# Altium footprint library WR-LECO.PcbLib: 17 footprints (part 1 of 2)
Each footprint in its own frame and in the unit in brackets; x right, y up, seen from the top. Pads: shape width x height; smd on the part's side, far side on the other; paste and mask are expansions set on the pad; w line width, h text height; cw(c..) or ccw(c..) is an arc to the next point about the centre after c.
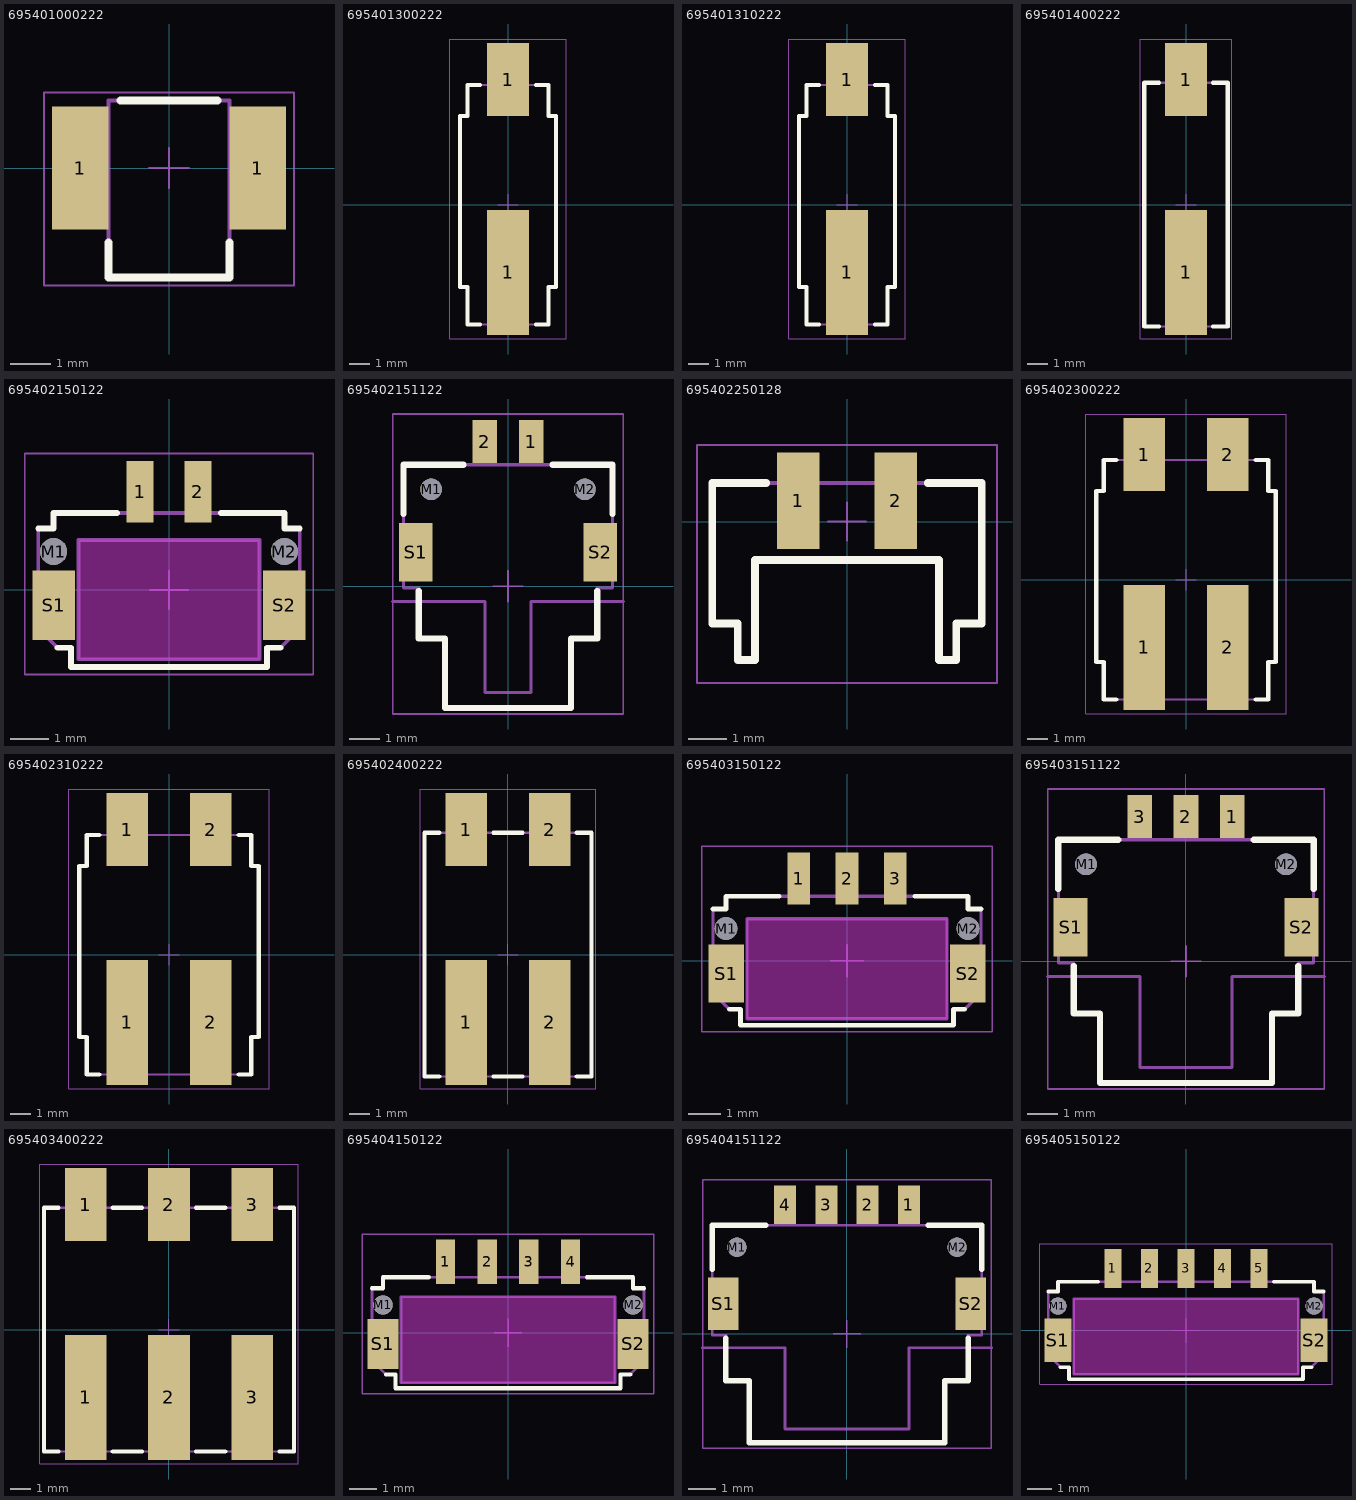
[diagram p0: the footprints below, top view; thin cyan lines are the x and y axes]

## 695401000222 [mm] "Single Contact SMT Vertical Poke-in Connector"
height 6
pads (2):
  rect 1.4x3.05 smd: 1(-2.2,0) 1(2.2,0)
Top Overlay:
  lines w0.2: -1.5,-1.85 -1.5,-2.72 1.5,-2.72 1.5,-1.85 ; -1.2,1.68 1.2,1.68
Top Designator:
  text ".Designator" at -7.498,-0.5 h1.5
Top Component Outline:
  lines w0.1: -1.5,-1.12 -2.5,-1.12 -2.5,1.26 -1.5,1.26 ; 1.5,-1.12 2.5,-1.12 2.5,1.26 1.5,1.26 ; -1.5,-2.72 1.5,-2.72 1.5,1.68 -1.5,1.68 -1.5,-2.72
Top 3D Body:
  lines w0.1: -1.5,-1.12 -2.5,-1.12 -2.5,1.26 -1.5,1.26 ; 1.5,-1.12 2.5,-1.12 2.5,1.26 1.5,1.26 ; -1.5,-2.72 1.5,-2.72 1.5,1.68 -1.5,1.68 -1.5,-2.72
Top Courtyard:
  lines w0.05: -3.1,-2.92 -3.1,1.88 3.1,1.88 3.1,-2.92 -3.1,-2.92
Top Component Center:
  lines w0.05: -0.5,0 0.5,0 ; 0,-0.5 0,0.5
3D body "695401000222 (rev1).step": height 6.05, standoff 0.05, extent -2.5,-2.72 2.5,1.68

## 695401300222 [mm] "4.00mm Side Entry SMT Type Connector"
height 4.9
pads (2):
  rect 2x6 smd: 1(0,-3.25)
  rect 2x3.5 smd: 1(0,6)
Top Overlay:
  lines w0.2: -1.35,-5.75 -1.95,-5.75 -1.95,-3.95 -2.31,-3.95 -2.31,4.25 -1.95,4.25 -1.95,5.75 -1.35,5.75 ; 1.35,-5.75 1.95,-5.75 1.95,-3.95 2.31,-3.95 2.31,4.25 1.95,4.25 1.95,5.75 1.35,5.75
Top Designator:
  text ".Designator" at -4.998,-0.333 h1
Top Component Outline:
  lines w0.1: -0.6,5.75 -0.6,7.35 0.6,7.35 0.6,5.75 ; -2.31,-3.95 -1.95,-3.95 -1.95,-5.75 1.95,-5.75 1.95,-3.95 2.31,-3.95 2.31,4.25 1.95,4.25 1.95,5.75 -1.95,5.75 -1.95,4.25 -2.31,4.25 -2.31,-3.95
Top Courtyard:
  lines w0.05: -2.8,-6.45 -2.8,7.95 2.8,7.95 2.8,-6.45 -2.8,-6.45
Top Component Center:
  lines w0.05: -0.5,0 0.5,0 ; 0,-0.5 0,0.5
3D body "695401300222.stp": height 5.05, standoff 0.05, extent -2.6,-5.75 2.6,7.35

## 695401310222 [mm] "4.00mm Side Entry SMT Type Connector"
height 4.9
pads (2):
  rect 2x6 smd: 1(0,-3.25)
  rect 2x3.5 smd: 1(0,6)
Top Overlay:
  lines w0.2: -1.35,-5.75 -1.95,-5.75 -1.95,-3.95 -2.31,-3.95 -2.31,4.25 -1.95,4.25 -1.95,5.75 -1.35,5.75 ; 1.35,-5.75 1.95,-5.75 1.95,-3.95 2.31,-3.95 2.31,4.25 1.95,4.25 1.95,5.75 1.35,5.75
Top Designator:
  text ".Designator" at -4.998,-0.333 h1
Top Component Outline:
  lines w0.1: -0.6,5.75 -0.6,7.35 0.6,7.35 0.6,5.75 ; -2.31,-3.95 -1.95,-3.95 -1.95,-5.75 1.95,-5.75 1.95,-3.95 2.31,-3.95 2.31,4.25 1.95,4.25 1.95,5.75 -1.95,5.75 -1.95,4.25 -2.31,4.25 -2.31,-3.95
Top Courtyard:
  lines w0.05: -2.8,-6.45 -2.8,7.95 2.8,7.95 2.8,-6.45 -2.8,-6.45
Top Component Center:
  lines w0.05: -0.5,0 0.5,0 ; 0,-0.5 0,0.5
3D body "695401300222.stp": height 5.05, standoff 0.05, extent -2.6,-5.75 2.6,7.35

## 695401400222 [mm] "SMT Horizontal Entry Connector, 1p"
height 4.6
pads (2):
  rect 2x6 smd: 1(0,-3.25)
  rect 2x3.5 smd: 1(0,6)
Top Overlay:
  lines w0.2: -1.3,-5.85 -2,-5.85 -2,5.85 -1.3,5.85 ; 1.3,-5.85 2,-5.85 2,5.85 1.3,5.85
Top Designator:
  text ".Designator" at 0.5,-7.498 h1.5
Top Component Outline:
  lines w0.1: -0.6,5.85 -0.6,7.25 0.6,7.25 0.6,5.85 ; -2,-5.85 -2,5.85 2,5.85 2,-5.85 -2,-5.85
Top 3D Body:
  lines w0.1: -0.6,5.85 -0.6,7.25 0.6,7.25 0.6,5.85 ; -2,-5.85 -2,5.85 2,5.85 2,-5.85 -2,-5.85
Top Courtyard:
  lines w0.05: -2.2,-6.45 2.2,-6.45 2.2,7.95 -2.2,7.95 -2.2,-6.45
Top Component Center:
  lines w0.05: -0.5,0 0.5,0 ; 0,-0.5 0,0.5
3D body "695401400222.stp": height 4.57, standoff -0.03, extent -2,-5.85 2,7.25

## 695402150122 [mm] "SMT_Plug_Horizontal_2 pins"
height 1.85
pads (6):
  rect 0.7x1.6 smd: 1(-0.75,2.55) 2(0.75,2.55)
  round 0.7 hole 0.7 unplated: M1(-3,1) M2(3,1)
  rect 1.1x1.8 smd: S1(-3,-0.4) S2(3,-0.4)
Top Overlay:
  lines w0.15: -3.4,1.6 -3,1.6 -3,2 -1.35,2 ; -2.898,-1.502 -2.548,-1.502 -2.548,-2 ; 1.35,2 3,2 3,1.6 3.4,1.6 ; 2.898,-1.502 2.548,-1.502 2.548,-2 ; -2.548,-2 2.548,-2 ; -2.548,-2 2.548,-2
Keep-Out Layer:
  board cut-out: -2.35,1.3 2.35,1.3 2.35,-1.8 -2.35,-1.8
Board Shape:
  lines w0.1: -2.35,-1.8 -2.35,1.3 2.35,1.3 2.35,-1.8 -2.35,-1.8
Top Designator:
  text ".Designator" at -7.498,-0.5 h1.5
Top Notes (Mech5):
  lines w0.1: -2.35,-1.8 2.35,-1.8 2.35,1.3 -2.35,1.3 -2.35,-1.8
  text "Panel Cutout" at -2,-0.4 h0.8
Top Component Outline:
  lines w0.1: -0.85,2 -0.85,3.1 -0.65,3.1 -0.65,2 ; 0.65,2 0.65,3.1 0.85,3.1 0.85,2 ; -3.4,-1 -2.898,-1.502 -2.548,-1.502 -2.548,-2 2.548,-2 2.548,-1.502 2.898,-1.502 3.4,-1 3.4,1.6 3,1.6 3,2 -3,2 -3,1.6 -3.4,1.6 -3.4,-1
Top 3D Body:
  lines w0.1: -0.85,2 -0.85,3.1 -0.65,3.1 -0.65,2 ; 0.65,2 0.65,3.1 0.85,3.1 0.85,2 ; -3.4,-1 -2.898,-1.502 -2.548,-1.502 -2.548,-2 2.548,-2 2.548,-1.502 2.898,-1.502 3.4,-1 3.4,1.6 3,1.6 3,2 -3,2 -3,1.6 -3.4,1.6 -3.4,-1
Top Courtyard:
  lines w0.05: -3.75,-2.2 -3.75,3.55 3.75,3.55 3.75,-2.2 -3.75,-2.2
Top Component Center:
  lines w0.05: -0.5,0 0.5,0 ; 0,-0.5 0,0.5
3D body "695402150122.stp": height 1.85, standoff -0.4, extent -3.4,-2 3.4,3.1

## 695402151122 [mm] "Horizontal SMT Receptacle_ 2 pins"
height 2.45
pads (6):
  rect 0.8x1.4 smd: 1(0.75,4.7) 2(-0.75,4.7)
  round 0.7 hole 0.7 unplated: M1(-2.5,3.15) M2(2.5,3.15)
  rect 1.1x1.9 smd: S1(-3,1.1) S2(3,1.1)
Top Overlay:
  lines w0.2: -3.4,2.35 -3.4,3.95 -1.45,3.95 ; -2.9,-0.15 -2.9,-1.7 -2.05,-1.7 -2.05,-3.95 2.05,-3.95 2.05,-1.7 2.9,-1.7 2.9,-0.15 ; 1.45,3.95 3.4,3.95 3.4,2.35
Top Designator:
  text ".Designator" at -7.498,-0.5 h1.5
Top Notes (Mech5):
  lines w0.1: -3.75,-0.5 -0.75,-0.5 -0.75,-3.45 0.75,-3.45 0.75,-0.5 3.75,-0.5
  text "PCB Edge" at -2.38,-4.397 h0.7
Top Component Outline:
  lines w0.1: -0.95,3.95 -0.95,5.05 -0.55,5.05 -0.55,3.95 ; 0.55,3.95 0.55,5.05 0.95,5.05 0.95,3.95 ; -3.4,-0.05 -3.4,3.95 3.4,3.95 3.4,-0.05 2.9,-0.05 2.9,-1.7 2.05,-1.7 2.05,-3.95 -2.05,-3.95 -2.05,-1.7 -2.9,-1.7 -2.9,-0.05 -3.4,-0.05
Top 3D Body:
  lines w0.1: -0.95,3.95 -0.95,5.05 -0.55,5.05 -0.55,3.95 ; 0.55,3.95 0.55,5.05 0.95,5.05 0.95,3.95 ; -3.4,-0.05 -3.4,3.95 3.4,3.95 3.4,-0.05 2.9,-0.05 2.9,-1.7 2.05,-1.7 2.05,-3.95 -2.05,-3.95 -2.05,-1.7 -2.9,-1.7 -2.9,-0.05 -3.4,-0.05
Top Courtyard:
  lines w0.05: -3.75,-4.15 3.75,-4.15 3.75,5.6 -3.75,5.6 -3.75,-4.15
Top Component Center:
  lines w0.05: -0.5,0 0.5,0 ; 0,-0.5 0,0.5
3D body "695402151122.stp": height 2.47, standoff -0.39, extent -3.4,-3.95 3.4,5.05

## 695402250128 [mm] "SMT Angled Hermaphroditic Connection"
height 2.3
pads (2):
  rect 1.1x2.5 smd: 1(-1.27,0.54) 2(1.27,0.54)
Top Overlay:
  lines w0.2: -2.1,1 -3.5,1 -3.5,-2.65 -2.84,-2.65 -2.84,-3.6 -2.39,-3.6 -2.39,-1 2.39,-1 2.39,-3.6 2.84,-3.6 2.84,-2.65 3.5,-2.65 3.5,1 2.1,1
Top Designator:
  text ".Designator" at -7.498,-0.5 h1.5
Top Component Outline:
  lines w0.1: -1.52,1 -1.52,1.5 -1.02,1.5 -1.02,1 ; 1.02,1 1.02,1.5 1.52,1.5 1.52,1 ; -3.5,-2.65 -2.84,-2.65 -2.84,-3.6 -2.39,-3.6 -2.39,-1 2.39,-1 2.39,-3.6 2.84,-3.6 2.84,-2.65 3.5,-2.65 3.5,1 -3.5,1 -3.5,-2.65
Top 3D Body:
  lines w0.1: -1.52,1 -1.52,1.5 -1.02,1.5 -1.02,1 ; 1.02,1 1.02,1.5 1.52,1.5 1.52,1 ; -3.5,-2.65 -2.84,-2.65 -2.84,-3.6 -2.39,-3.6 -2.39,-1 2.39,-1 2.39,-3.6 2.84,-3.6 2.84,-2.65 3.5,-2.65 3.5,1 -3.5,1 -3.5,-2.65
Top Courtyard:
  lines w0.05: -3.9,-4.2 3.9,-4.2 3.9,1.99 -3.9,1.99 -3.9,-4.2
Top Component Center:
  lines w0.05: -0.5,0 0.5,0 ; 0,-0.5 0,0.5
3D body "695402250128 (rev1).stp": height 2.32, standoff 0.02, extent -3.7,-4 3.7,1.513

## 695402300222 [mm] "4.00mm Side Entry SMT Type Connector"
height 4.9
pads (4):
  rect 2x6 smd: 1(-2,-3.25) 2(2,-3.25)
  rect 2x3.5 smd: 1(-2,6) 2(2,6)
Top Overlay:
  lines w0.2: -3.35,-5.75 -3.95,-5.75 -3.95,-3.95 -4.31,-3.95 -4.31,4.25 -3.95,4.25 -3.95,5.75 -3.35,5.75 ; 3.35,-5.75 3.95,-5.75 3.95,-3.95 4.31,-3.95 4.31,4.25 3.95,4.25 3.95,5.75 3.35,5.75
Top Designator:
  text ".Designator" at -4.998,-0.333 h1
Top Component Outline:
  lines w0.1: -2.6,5.75 -2.6,7.35 -1.4,7.35 -1.4,5.75 ; 1.4,5.75 1.4,7.35 2.6,7.35 2.6,5.75 ; -4.31,-3.95 -3.95,-3.95 -3.95,-5.75 3.95,-5.75 3.95,-3.95 4.31,-3.95 4.31,4.25 3.95,4.25 3.95,5.75 -3.95,5.75 -3.95,4.25 -4.31,4.25 -4.31,-3.95
Top Courtyard:
  lines w0.05: -4.8,-6.45 -4.8,7.95 4.8,7.95 4.8,-6.45 -4.8,-6.45
Top Component Center:
  lines w0.05: -0.5,0 0.5,0 ; 0,-0.5 0,0.5
3D body "695402300222.stp": height 5.05, standoff 0.05, extent -4.6,-5.75 4.6,7.35

## 695402310222 [mm] "4.00mm Side Entry SMT Type Connector"
height 4.9
pads (4):
  rect 2x6 smd: 1(-2,-3.25) 2(2,-3.25)
  rect 2x3.5 smd: 1(-2,6) 2(2,6)
Top Overlay:
  lines w0.2: -3.35,-5.75 -3.95,-5.75 -3.95,-3.95 -4.31,-3.95 -4.31,4.25 -3.95,4.25 -3.95,5.75 -3.35,5.75 ; 3.35,-5.75 3.95,-5.75 3.95,-3.95 4.31,-3.95 4.31,4.25 3.95,4.25 3.95,5.75 3.35,5.75
Top Designator:
  text ".Designator" at -4.998,-0.333 h1
Top Component Outline:
  lines w0.1: -2.6,5.75 -2.6,7.35 -1.4,7.35 -1.4,5.75 ; 1.4,5.75 1.4,7.35 2.6,7.35 2.6,5.75 ; -4.31,-3.95 -4.31,4.25 -3.95,4.25 -3.95,5.75 3.95,5.75 3.95,4.25 4.31,4.25 4.31,-3.95 3.95,-3.95 3.95,-5.75 -3.95,-5.75 -3.95,-3.95 -4.31,-3.95
Top Courtyard:
  lines w0.05: -4.8,-6.45 4.8,-6.45 4.8,7.95 -4.8,7.95 -4.8,-6.45
Top Component Center:
  lines w0.05: -0.5,0 0.5,0 ; 0,-0.5 0,0.5
3D body "695402300222.stp": height 5.05, standoff 0.05, extent -4.6,-5.75 4.6,7.35

## 695402400222 [mm] "SMT Horizontal Entry Connector, 2p"
height 4.6
pads (4):
  rect 2x6 smd: 1(-2,-3.25) 2(2,-3.25)
  rect 2x3.5 smd: 1(-2,6) 2(2,6)
Top Overlay:
  lines w0.2: -3.3,-5.85 -4,-5.85 -4,5.85 -3.3,5.85 ; -0.7,-5.85 0.7,-5.85 ; -0.7,5.85 0.7,5.85 ; 3.3,-5.85 4,-5.85 4,5.85 3.3,5.85
Top Designator:
  text ".Designator" at -7.498,-0.5 h1.5
Top Component Outline:
  lines w0.1: -2.6,5.85 -2.6,7.25 -1.4,7.25 -1.4,5.85 ; 1.4,5.85 1.4,7.25 2.6,7.25 2.6,5.85 ; -4,-5.85 4,-5.85 4,5.85 -4,5.85 -4,-5.85
Top 3D Body:
  lines w0.1: -2.6,5.85 -2.6,7.25 -1.4,7.25 -1.4,5.85 ; 1.4,5.85 1.4,7.25 2.6,7.25 2.6,5.85 ; -4,-5.85 4,-5.85 4,5.85 -4,5.85 -4,-5.85
Top Courtyard:
  lines w0.05: -4.2,-6.45 -4.2,7.95 4.2,7.95 4.2,-6.45 -4.2,-6.45
Top Component Center:
  lines w0.05: -0.5,0 0.5,0 ; 0,-0.5 0,0.5
3D body "695402400222.stp": height 4.57, standoff -0.03, extent -4,-5.85 4,7.25

## 695403150122 [mm] "SMT_Plug_Horizontal_3 pins"
height 1.85
pads (7):
  rect 0.7x1.6 smd: 1(-1.5,2.55) 2(0,2.55) 3(1.5,2.55)
  round 0.7 hole 0.7 unplated: M1(-3.75,1) M2(3.75,1)
  rect 1.1x1.8 smd: S1(-3.75,-0.4) S2(3.75,-0.4)
Top Overlay:
  lines w0.15: -4.15,1.6 -3.75,1.6 -3.75,2 -2.1,2 ; -3.648,-1.502 -3.298,-1.502 -3.298,-2 ; 1.798,-2 -3.298,-2 ; 2.1,2 3.75,2 3.75,1.6 4.15,1.6 ; 3.648,-1.502 3.298,-1.502 3.298,-2 -3.298,-2
Keep-Out Layer:
  board cut-out: -3.1,1.3 3.1,1.3 3.1,-1.8 -3.1,-1.8
Board Shape:
  lines w0.1: -3.1,-1.8 3.1,-1.8 3.1,1.3 -3.1,1.3 -3.1,-1.8
Top Designator:
  text ".Designator" at -7.498,-0.5 h1.5
Top Notes (Mech5):
  lines w0.1: -3.1,-1.8 -3.1,1.3 3.1,1.3 3.1,-1.8 -3.1,-1.8
  text "Panel Cutout" at -2,-0.4 h0.8
Top Component Outline:
  lines w0.1: -1.6,2 -1.6,3.1 -1.4,3.1 -1.4,2 ; -0.1,2 -0.1,3.1 0.1,3.1 0.1,2 ; 1.4,2 1.4,3.1 1.6,3.1 1.6,2 ; -4.15,-1 -4.15,1.6 -3.75,1.6 -3.75,2 3.75,2 3.75,1.6 4.15,1.6 4.15,-1 3.648,-1.502 3.298,-1.502 3.298,-2 -3.298,-2 -3.298,-1.502 -3.648,-1.502 -4.15,-1
Top 3D Body:
  lines w0.1: -1.6,2 -1.6,3.1 -1.4,3.1 -1.4,2 ; -0.1,2 -0.1,3.1 0.1,3.1 0.1,2 ; 1.4,2 1.4,3.1 1.6,3.1 1.6,2 ; -4.15,-1 -3.648,-1.502 -3.298,-1.502 -3.298,-2 3.298,-2 3.298,-1.502 3.648,-1.502 4.15,-1 4.15,1.6 3.75,1.6 3.75,2 -3.75,2 -3.75,1.6 -4.15,1.6 -4.15,-1
Top Courtyard:
  lines w0.05: -4.5,-2.2 -4.5,3.55 4.5,3.55 4.5,-2.2 -4.5,-2.2
Top Component Center:
  lines w0.05: -0.5,0 0.5,0 ; 0,-0.5 0,0.5
3D body "695403150122.stp": height 1.85, standoff -0.4, extent -4.15,-2 4.15,3.1

## 695403151122 [mm] "Horizontal SMT Receptacle_ 3 pins"
height 2.45
pads (7):
  rect 0.8x1.4 smd: 1(1.5,4.7) 2(0,4.7) 3(-1.5,4.7)
  round 0.7 hole 0.7 unplated: M1(-3.25,3.15) M2(3.25,3.15)
  rect 1.1x1.9 smd: S1(-3.75,1.1) S2(3.75,1.1)
Top Overlay:
  lines w0.2: -4.15,2.35 -4.15,3.95 -2.2,3.95 ; -3.65,-0.15 -3.65,-1.7 -2.8,-1.7 -2.8,-3.95 2.8,-3.95 2.8,-1.7 3.65,-1.7 3.65,-0.15 ; 2.2,3.95 4.15,3.95 4.15,2.35
Top Designator:
  text ".Designator" at -7.498,-0.5 h1.5
Top Notes (Mech5):
  lines w0.1: -4.5,-0.5 -1.5,-0.5 -1.5,-3.45 1.5,-3.45 1.5,-0.5 4.5,-0.5
  text "PCB Edge" at -2.38,-4.397 h0.7
Top Component Outline:
  lines w0.1: -1.7,3.95 -1.7,5.05 -1.3,5.05 -1.3,3.95 ; -0.2,3.95 -0.2,5.05 0.2,5.05 0.2,3.95 ; 1.3,3.95 1.3,5.05 1.7,5.05 1.7,3.95 ; -4.15,-0.05 -4.15,3.95 4.15,3.95 4.15,-0.05 3.65,-0.05 3.65,-1.7 2.8,-1.7 2.8,-3.95 -2.8,-3.95 -2.8,-1.7 -3.65,-1.7 -3.65,-0.05 -4.15,-0.05
Top 3D Body:
  lines w0.1: -1.7,3.95 -1.7,5.05 -1.3,5.05 -1.3,3.95 ; -0.2,3.95 -0.2,5.05 0.2,5.05 0.2,3.95 ; 1.3,3.95 1.3,5.05 1.7,5.05 1.7,3.95 ; -4.15,-0.05 -3.65,-0.05 -3.65,-1.7 -2.8,-1.7 -2.8,-3.95 2.8,-3.95 2.8,-1.7 3.65,-1.7 3.65,-0.05 4.15,-0.05 4.15,3.95 -4.15,3.95 -4.15,-0.05
Top Courtyard:
  lines w0.05: -4.5,-4.15 -4.5,5.6 4.5,5.6 4.5,-4.15 -4.5,-4.15
Top Component Center:
  lines w0.05: -0.5,0 0.5,0 ; 0,-0.5 0,0.5
3D body "695403151122.stp": height 2.47, standoff -0.39, extent -4.15,-3.95 4.15,5.05

## 695403400222 [mm] "SMT Horizontal Entry Connector, 3p"
height 4.6
pads (6):
  rect 2x6 smd: 1(-4,-3.25) 2(0,-3.25) 3(4,-3.25)
  rect 2x3.5 smd: 1(-4,6) 2(0,6) 3(4,6)
Top Overlay:
  lines w0.2: -5.3,-5.85 -6,-5.85 -6,5.85 -5.3,5.85 ; -2.7,-5.85 -1.3,-5.85 ; -2.7,5.85 -1.3,5.85 ; 1.3,-5.85 2.7,-5.85 ; 1.3,5.85 2.7,5.85 ; 5.3,-5.85 6,-5.85 6,5.85 5.3,5.85
Top Designator:
  text ".Designator" at -7.498,-0.5 h1.5
Top Component Outline:
  lines w0.1: -4.6,5.85 -4.6,7.25 -3.4,7.25 -3.4,5.85 ; -0.6,5.85 -0.6,7.25 0.6,7.25 0.6,5.85 ; 3.4,5.85 3.4,7.25 4.6,7.25 4.6,5.85 ; -6,-5.85 6,-5.85 6,5.85 -6,5.85 -6,-5.85
Top 3D Body:
  lines w0.1: -4.6,5.85 -4.6,7.25 -3.4,7.25 -3.4,5.85 ; -0.6,5.85 -0.6,7.25 0.6,7.25 0.6,5.85 ; 3.4,5.85 3.4,7.25 4.6,7.25 4.6,5.85 ; -6,-5.85 6,-5.85 6,5.85 -6,5.85 -6,-5.85
Top Courtyard:
  lines w0.05: -6.2,-6.45 -6.2,7.95 6.2,7.95 6.2,-6.45 -6.2,-6.45
Top Component Center:
  lines w0.05: -0.5,0 0.5,0 ; 0,-0.5 0,0.5
3D body "695403400222.stp": height 4.57, standoff -0.03, extent -6,-5.85 6,7.25

## 695404150122 [mm] "SMT_Plug_Horizontal_4 pins"
height 1.85
pads (8):
  rect 0.7x1.6 smd: 1(-2.25,2.55) 2(-0.75,2.55) 3(0.75,2.55) 4(2.25,2.55)
  round 0.7 hole 0.7 unplated: M1(-4.5,1) M2(4.5,1)
  rect 1.1x1.8 smd: S1(-4.5,-0.4) S2(4.5,-0.4)
Top Overlay:
  lines w0.15: -4.9,1.6 -4.5,1.6 -4.5,2 -2.85,2 ; -4.398,-1.502 -4.048,-1.502 -4.048,-2 ; 1.048,-2 -4.048,-2 ; 2.85,2 4.5,2 4.5,1.6 4.9,1.6 ; 4.398,-1.502 4.048,-1.502 4.048,-2 -4.048,-2
Keep-Out Layer:
  board cut-out: -3.85,1.3 3.85,1.3 3.85,-1.8 -3.85,-1.8
Board Shape:
  lines w0.1: -3.85,-1.8 3.85,-1.8 3.85,1.3 -3.85,1.3 -3.85,-1.8
Top Designator:
  text ".Designator" at -7.498,-0.5 h1.5
Top Notes (Mech5):
  lines w0.1: -3.85,-1.8 3.85,-1.8 3.85,1.3 -3.85,1.3 -3.85,-1.8
  text "Panel Cutout" at -2,-0.4 h0.8
Top Component Outline:
  lines w0.1: -2.35,2 -2.35,3.1 -2.15,3.1 -2.15,2 ; -0.85,2 -0.85,3.1 -0.65,3.1 -0.65,2 ; 0.65,2 0.65,3.1 0.85,3.1 0.85,2 ; 2.15,2 2.15,3.1 2.35,3.1 2.35,2 ; -4.9,-1 -4.398,-1.502 -4.048,-1.502 -4.048,-2 4.048,-2 4.048,-1.502 4.398,-1.502 4.9,-1 4.9,1.6 4.5,1.6 4.5,2 -4.5,2 -4.5,1.6 -4.9,1.6 -4.9,-1
Top 3D Body:
  lines w0.1: -2.35,2 -2.35,3.1 -2.15,3.1 -2.15,2 ; -0.85,2 -0.85,3.1 -0.65,3.1 -0.65,2 ; 0.65,2 0.65,3.1 0.85,3.1 0.85,2 ; 2.15,2 2.15,3.1 2.35,3.1 2.35,2 ; -4.9,-1 -4.9,1.6 -4.5,1.6 -4.5,2 4.5,2 4.5,1.6 4.9,1.6 4.9,-1 4.398,-1.502 4.048,-1.502 4.048,-2 -4.048,-2 -4.048,-1.502 -4.398,-1.502 -4.9,-1
Top Courtyard:
  lines w0.05: -5.25,-2.2 5.25,-2.2 5.25,3.55 -5.25,3.55 -5.25,-2.2
Top Component Center:
  lines w0.05: -0.5,0 0.5,0 ; 0,-0.5 0,0.5
3D body "695404150122.stp": height 1.85, standoff -0.4, extent -4.9,-2 4.9,3.1

## 695404151122 [mm] "Horizontal SMT Receptacle_ 4 pins"
height 2.45
pads (8):
  rect 0.8x1.4 smd: 1(2.25,4.7) 2(0.75,4.7) 3(-0.75,4.7) 4(-2.25,4.7)
  round 0.7 hole 0.7 unplated: M1(-4,3.15) M2(4,3.15)
  rect 1.1x1.9 smd: S1(-4.5,1.1) S2(4.5,1.1)
Top Overlay:
  lines w0.2: -4.9,2.35 -4.9,3.95 -2.95,3.95 ; -4.4,-0.15 -4.4,-1.7 -3.55,-1.7 -3.55,-3.95 3.55,-3.95 3.55,-1.7 4.4,-1.7 4.4,-0.15 ; 2.95,3.95 4.9,3.95 4.9,2.35
Top Designator:
  text ".Designator" at -7.498,-0.5 h1.5
Top Notes (Mech5):
  lines w0.1: -5.25,-0.5 -2.25,-0.5 -2.25,-3.45 2.25,-3.45 2.25,-0.5 5.25,-0.5
  text "PCB Edge" at -2.38,-4.397 h0.7
Top Component Outline:
  lines w0.1: -2.45,3.95 -2.45,5.05 -2.05,5.05 -2.05,3.95 ; -0.95,3.95 -0.95,5.05 -0.55,5.05 -0.55,3.95 ; 0.55,3.95 0.55,5.05 0.95,5.05 0.95,3.95 ; 2.05,3.95 2.05,5.05 2.45,5.05 2.45,3.95 ; -4.9,-0.05 -4.9,3.95 4.9,3.95 4.9,-0.05 4.4,-0.05 4.4,-1.7 3.55,-1.7 3.55,-3.95 -3.55,-3.95 -3.55,-1.7 -4.4,-1.7 -4.4,-0.05 -4.9,-0.05
Top 3D Body:
  lines w0.1: -2.45,3.95 -2.45,5.05 -2.05,5.05 -2.05,3.95 ; -0.95,3.95 -0.95,5.05 -0.55,5.05 -0.55,3.95 ; 0.55,3.95 0.55,5.05 0.95,5.05 0.95,3.95 ; 2.05,3.95 2.05,5.05 2.45,5.05 2.45,3.95 ; -4.9,-0.05 -4.4,-0.05 -4.4,-1.7 -3.55,-1.7 -3.55,-3.95 3.55,-3.95 3.55,-1.7 4.4,-1.7 4.4,-0.05 4.9,-0.05 4.9,3.95 -4.9,3.95 -4.9,-0.05
Top Courtyard:
  lines w0.05: -5.25,-4.15 -5.25,5.6 5.25,5.6 5.25,-4.15 -5.25,-4.15
Top Component Center:
  lines w0.05: -0.5,0 0.5,0 ; 0,-0.5 0,0.5
3D body "695404151122.stp": height 2.47, standoff -0.39, extent -4.9,-3.95 4.9,5.05

## 695405150122 [mm] "SMT_Plug_Horizontal_5 pins"
height 1.85
pads (9):
  rect 0.7x1.6 smd: 1(-3,2.55) 2(-1.5,2.55) 3(0,2.55) 4(1.5,2.55) 5(3,2.55)
  round 0.7 hole 0.7 unplated: M1(-5.25,1) M2(5.25,1)
  rect 1.1x1.8 smd: S1(-5.25,-0.4) S2(5.25,-0.4)
Top Overlay:
  lines w0.15: -5.65,1.6 -5.25,1.6 -5.25,2 -3.6,2 ; -5.148,-1.502 -4.798,-1.502 -4.798,-2 ; 0.298,-2 -4.798,-2 ; 3.6,2 5.25,2 5.25,1.6 5.65,1.6 ; 5.148,-1.502 4.798,-1.502 4.798,-2 -4.798,-2
Keep-Out Layer:
  board cut-out: -4.6,1.3 4.6,1.3 4.6,-1.8 -4.6,-1.8
Board Shape:
  lines w0.1: -4.6,-1.8 4.6,-1.8 4.6,1.3 -4.6,1.3 -4.6,-1.8
Top Designator:
  text ".Designator" at -7.498,-0.5 h1.5
Top Notes (Mech5):
  lines w0.1: -4.6,-1.8 -4.6,1.3 4.6,1.3 4.6,-1.8 -4.6,-1.8
  text "Panel Cutout" at -2,-0.4 h0.8
Top Component Outline:
  lines w0.1: -3.1,2 -3.1,3.1 -2.9,3.1 -2.9,2 ; -1.6,2 -1.6,3.1 -1.4,3.1 -1.4,2 ; -0.1,2 -0.1,3.1 0.1,3.1 0.1,2 ; 1.4,2 1.4,3.1 1.6,3.1 1.6,2 ; 2.9,2 2.9,3.1 3.1,3.1 3.1,2 ; -5.65,-1 -5.148,-1.502 -4.798,-1.502 -4.798,-2 4.798,-2 4.798,-1.502 5.148,-1.502 5.65,-1 5.65,1.6 5.25,1.6 5.25,2 -5.25,2 -5.25,1.6 -5.65,1.6 -5.65,-1
Top 3D Body:
  lines w0.1: -3.1,2 -3.1,3.1 -2.9,3.1 -2.9,2 ; -1.6,2 -1.6,3.1 -1.4,3.1 -1.4,2 ; -0.1,2 -0.1,3.1 0.1,3.1 0.1,2 ; 1.4,2 1.4,3.1 1.6,3.1 1.6,2 ; 2.9,2 2.9,3.1 3.1,3.1 3.1,2 ; -5.65,-1 -5.148,-1.502 -4.798,-1.502 -4.798,-2 4.798,-2 4.798,-1.502 5.148,-1.502 5.65,-1 5.65,1.6 5.25,1.6 5.25,2 -5.25,2 -5.25,1.6 -5.65,1.6 -5.65,-1
Top Courtyard:
  lines w0.05: -6,-2.2 -6,3.55 6,3.55 6,-2.2 -6,-2.2
Top Component Center:
  lines w0.05: -0.5,0 0.5,0 ; 0,-0.5 0,0.5
3D body "695405150122.stp": height 1.85, standoff -0.4, extent -5.65,-2 5.65,3.1